# Altium schematic symbol library AVR.SchLib: 14 symbols
Pins are listed as number, name and electrical type; pins without a type are passive.

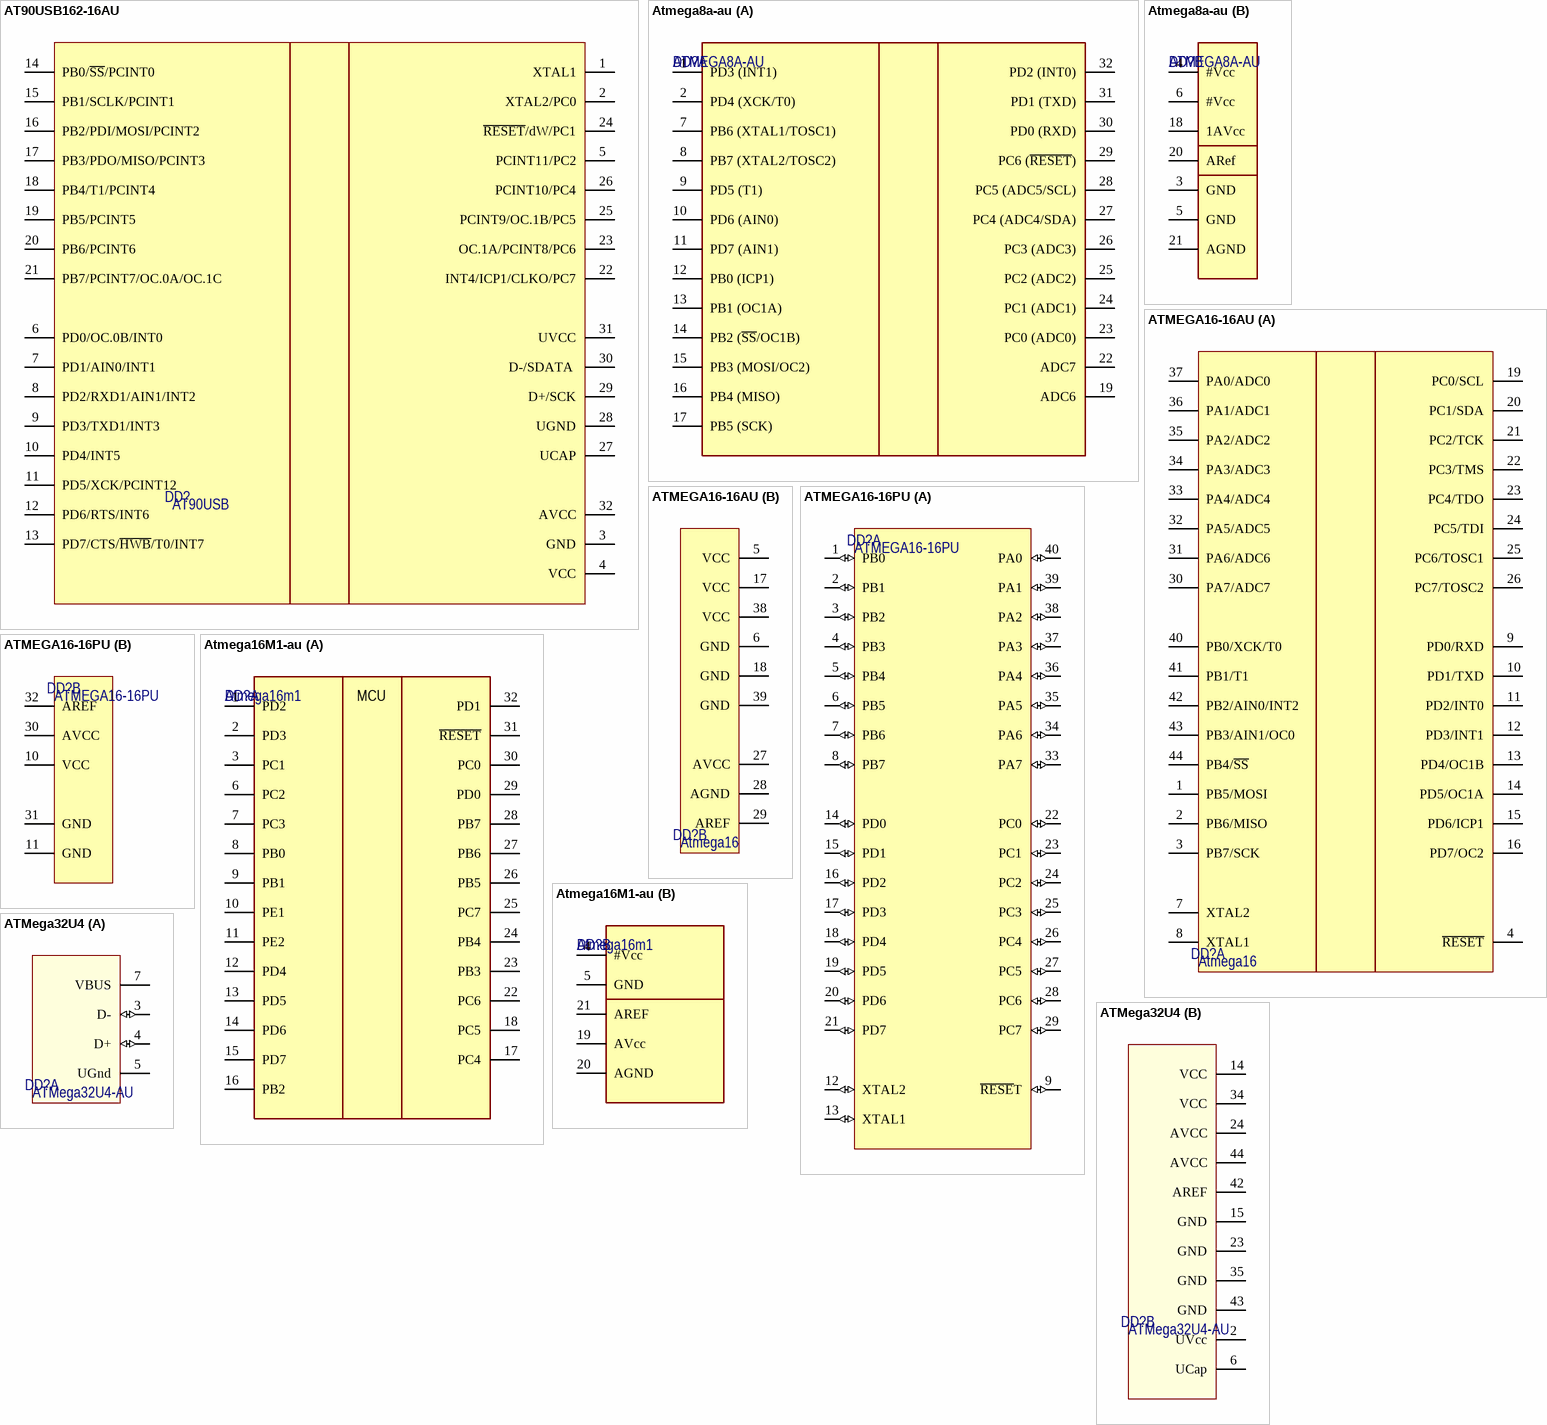
[diagram p0: symbols AT90USB162-16AU to ATMega32U4]

## AT90USB162-16AU
designator DD?, comment AT90USB
IC MCU 8BIT 16KB FLASH 32TQFP; Manufacturer: Atmel; ManufacturerPartNumber: AT90USB162-16AU; ComponentLink1URL: http://www.atmel.com/Images/7707S.pdf; ComponentLink1Description: http://www.atmel.com/Images/7707S.pdf; Note: *; Price: 120; Supplier: Промэлектроника
footprint 32A_N (Thin QFP, 32-Leads, Body 7x7mm, Pitch 0.8mm, IPC Medium Density)
pins: 1 XTAL1, 2 XTAL2/PC0, 3 GND, 4 VCC, 5 PCINT11/PC2, 6 PD0/OC.0B/INT0, 7 PD1/AIN0/INT1, 8 PD2/RXD1/AIN1/INT2, 9 PD3/TXD1/INT3, 10 PD4/INT5, 11 PD5/XCK/PCINT12, 12 PD6/RTS/INT6, 13 PD7/CTS/~{HWB}/T0/INT7, 14 PB0/~{SS}/PCINT0, 15 PB1/SCLK/PCINT1, 16 PB2/PDI/MOSI/PCINT2, 17 PB3/PDO/MISO/PCINT3, 18 PB4/T1/PCINT4, 19 PB5/PCINT5, 20 PB6/PCINT6, 21 PB7/PCINT7/OC.0A/OC.1C, 22 INT4/ICP1/CLKO/PC7, 23 OC.1A/PCINT8/PC6, 24 ~{RESET}/dW/PC1, 25 PCINT9/OC.1B/PC5, 26 PCINT10/PC4, 27 UCAP, 28 UGND, 29 D+/SCK, 30 D-/SDATA , 31 UVCC, 32 AVCC

## Atmega8a-au
designator DD?, comment ATMEGA8A-AU
Microcontroller 8-bit; Manufacturer: Atmel; ComponentLink1URL: http://www.atmel.com/images/atmel-8159-8-bit-avr-microcontroller-atmega8a_datasheet.pdf; ComponentLink1Description: Datasheet; Price: 50; Package: TQFP-32; Supplier: Промэлектроника; ManufacturerPartNumber: ATMEGA8A-AU
footprint 32A_M (Thin QFP, 32-Leads, Body 7x7mm, Pitch 0.8mm, IPC Low Density)
part A pins: 1 PD3 (INT1), 2 PD4 (XCK/T0), 7 PB6 (XTAL1/TOSC1), 8 PB7 (XTAL2/TOSC2), 9 PD5 (T1), 10 PD6 (AIN0), 11 PD7 (AIN1), 12 PB0 (ICP1), 13 PB1 (OC1A), 14 PB2 (~{SS}/OC1B), 15 PB3 (MOSI/OC2), 16 PB4 (MISO), 17 PB5 (SCK), 19 ADC6, 22 ADC7, 23 PC0 (ADC0), 24 PC1 (ADC1), 25 PC2 (ADC2), 26 PC3 (ADC3), 27 PC4 (ADC4/SDA), 28 PC5 (ADC5/SCL), 29 PC6 (~{RESET}), 30 PD0 (RXD), 31 PD1 (TXD), 32 PD2 (INT0)
part B pins: 3 GND, 4 #Vcc (power) "Vcc", 5 GND, 6 #Vcc (power) "Vcc", 18 1AVcc (power) "AVcc", 20 ARef "AREF", 21 AGND

## ATMEGA16-16AU
designator DD?, comment Atmega16
IC MCU 8BIT 16KB FLASH 44TQFP; Manufacturer: Atmel; ManufacturerPartNumber: ATMEGA16-16AU; ComponentLink1URL: http://www.atmel.com/Images/2466s.pdf; ComponentLink1Description: http://www.atmel.com/Images/2466s.pdf; Note: *; Price: 90; Supplier: Промэлектроника
footprint 44ML_L (Thin QFP, 44-Leads, Body 10x10mm, Pitch 0.8mm, IPC High Density)
footprint 44ML_M (Thin QFP, 44-Leads, Body 10x10mm, Pitch 0.8mm, IPC Low Density)
footprint 44ML_N (Thin QFP, 44-Leads, Body 10x10mm, Pitch 0.8mm, IPC Medium Density)
part A pins: 1 PB5/MOSI, 2 PB6/MISO, 3 PB7/SCK, 4 ~{RESET}, 7 XTAL2, 8 XTAL1, 9 PD0/RXD, 10 PD1/TXD, 11 PD2/INT0, 12 PD3/INT1, 13 PD4/OC1B, 14 PD5/OC1A, 15 PD6/ICP1, 16 PD7/OC2, 19 PC0/SCL, 20 PC1/SDA, 21 PC2/TCK, 22 PC3/TMS, 23 PC4/TDO, 24 PC5/TDI, 25 PC6/TOSC1, 26 PC7/TOSC2, 30 PA7/ADC7, 31 PA6/ADC6, 32 PA5/ADC5, 33 PA4/ADC4, 34 PA3/ADC3, 35 PA2/ADC2, 36 PA1/ADC1, 37 PA0/ADC0, 40 PB0/XCK/T0, 41 PB1/T1, 42 PB2/AIN0/INT2, 43 PB3/AIN1/OC0, 44 PB4/~{SS}
part B pins: 5 VCC, 6 GND, 17 VCC, 18 GND, 27 AVCC, 28 AGND, 29 AREF, 38 VCC, 39 GND

## ATMEGA16-16PU
designator DD?
8-битные микроконтроллеры 16kB Flash 0.5kB EEPROM 32 I/O Pins; Manufacturer: Atmel; ManufacturerPartNumber: ATMEGA16-16PU; ComponentLink1URL: http://www.mouser.com/ds/2/36/doc2466-24555.pdf; ComponentLink1Description: http://www.mouser.com/ds/2/36/doc2466-24555.pdf; Note: *; Price: 100; Supplier: *
footprint PDIP40
part A pins: 1 PB0 (io) "Ground", 2 PB1 (io) "Ground", 3 PB2 (io) "Ground", 4 PB3 (io) "Ground", 5 PB4 (io) "Ground", 6 PB5 (io) "Ground", 7 PB6 (io) "Ground", 8 PB7 (io) "Ground", 9 ~{RESE}T (io) "Ground", 12 XTAL2 (io) "Ground", 13 XTAL1 (io) "Ground", 14 PD0 (io) "Ground", 15 PD1 (io) "Ground", 16 PD2 (io) "Ground", 17 PD3 (io) "Ground", 18 PD4 (io) "Ground", 19 PD5 (io) "Ground", 20 PD6 (io) "Ground", 21 PD7 (io) "Ground", 22 PC0 (io) "Ground", 23 PC1 (io) "Ground", 24 PC2 (io) "Ground", 25 PC3 (io) "Ground", 26 PC4 (io) "Ground", 27 PC5 (io) "Ground", 28 PC6 (io) "Ground", 29 PC7 (io) "Ground", 33 PA7 (io) "Ground", 34 PA6 (io) "Ground", 35 PA5 (io) "Ground", 36 PA4 (io) "Ground", 37 PA3 (io) "Ground", 38 PA2 (io) "Ground", 39 PA1 (io) "Ground", 40 PA0 (io) "Ground"
part B pins: 10 VCC (power) "Ground", 11 GND (power) "Ground", 30 AVCC (power) "Ground", 31 GND (power) "Ground", 32 AREF (power) "Ground"

## Atmega16M1-au
designator DD?, comment Atmega16m1
Microcontroller 8-bit (CAN); Manufacturer: Atmel; ManufacturerPartNumber: Atmega16M1-AU; ComponentLink1URL: http://www.atmel.com/Images/doc8209.pdf; ComponentLink1Description: Datasheet; Price: 195; Package: TQFP-32; Supplier: Аргуссофт
footprint 32A_M (Thin QFP, 32-Leads, Body 7x7mm, Pitch 0.8mm, IPC Low Density)
part A pins: 1 PD2 "PD2 (PCINT18/PSCIN2/OC1A/MISO_A)", 2 PD3 "PD3 (PCINT19/TXD/TXLIN/OC0A/SS/MOSI_A)", 3 PC1 "PC1 (PCINT9/PSCIN1/OC1B/SS_A)", 6 PC2 "PC2 (PCINT10/T0/TXCAN)", 7 PC3 "PC3 (PCINT11/T1/RXCAN/ICP1B)", 8 PB0 "PB0 (PCINT0/MISO/PSCOUT2A)", 9 PB1 "PB1 (PCINT1/MOSI/PSCOUT2B)", 10 PE1 "PE1 (PCINT25/OC0B/XTAL1)", 11 PE2 "PE2 (PCINT26/ADC0/XTAL2)", 12 PD4 "PD4 (PCINT20/ADC1/RXD/RXLIN/CP1A/SCK_A)", 13 PD5 "PD5 (ADC2/ACMP2/PCINT21)", 14 PD6 "PD6 (ADC3/ACMPN2/INT0/PCINT22)", 15 PD7 "PD7 (ACMP0/PCINT23)", 16 PB2 "PB2 (ADC5/INT1/ACMPN0/PCINT2)", 17 PC4 "PC4 (ADC8/ACMPN3/AMP1-/PCINT12)", 18 PC5 "PC5 (ADC9/ACMP3/AMP1+/PCINT13)", 22 PC6 "PC6 (ADC10/ACMP1/PCINT14)", 23 PB3 "PB3 (AMP0-/PCINT3)", 24 PB4 "PB4 (AMP0+/PCINT4)", 25 PC7 "PC7 (D2A/AMP2+/PCINT15)", 26 PB5 "PB5 (ADC6/INT2/ACMPN1/AMP2-/PCINT5)", 27 PB6 "PB6 (ADC7/PSCOUT1B/PCINT6)", 28 PB7 "PB7 (ADC4/PSCOUT0B/SCK/PCINT7)", 29 PD0 "PD0 (PCINT16/PSCOUT0A)", 30 PC0 "PC0 (PCINT8/INT3/PSCOUT1A)", 31 ~{RESET} "PE0 (PCINT24/R\E\S\E\T\/OCD)", 32 PD1 "PD1 (PCINT17/PSCIN0/CLKO)"
part B pins: 4 #Vсс (power), 5 GND (power), 19 AVсс (power), 20 AGND (power), 21 AREF (power) "AREF (ISRC)"
part A text: MCU

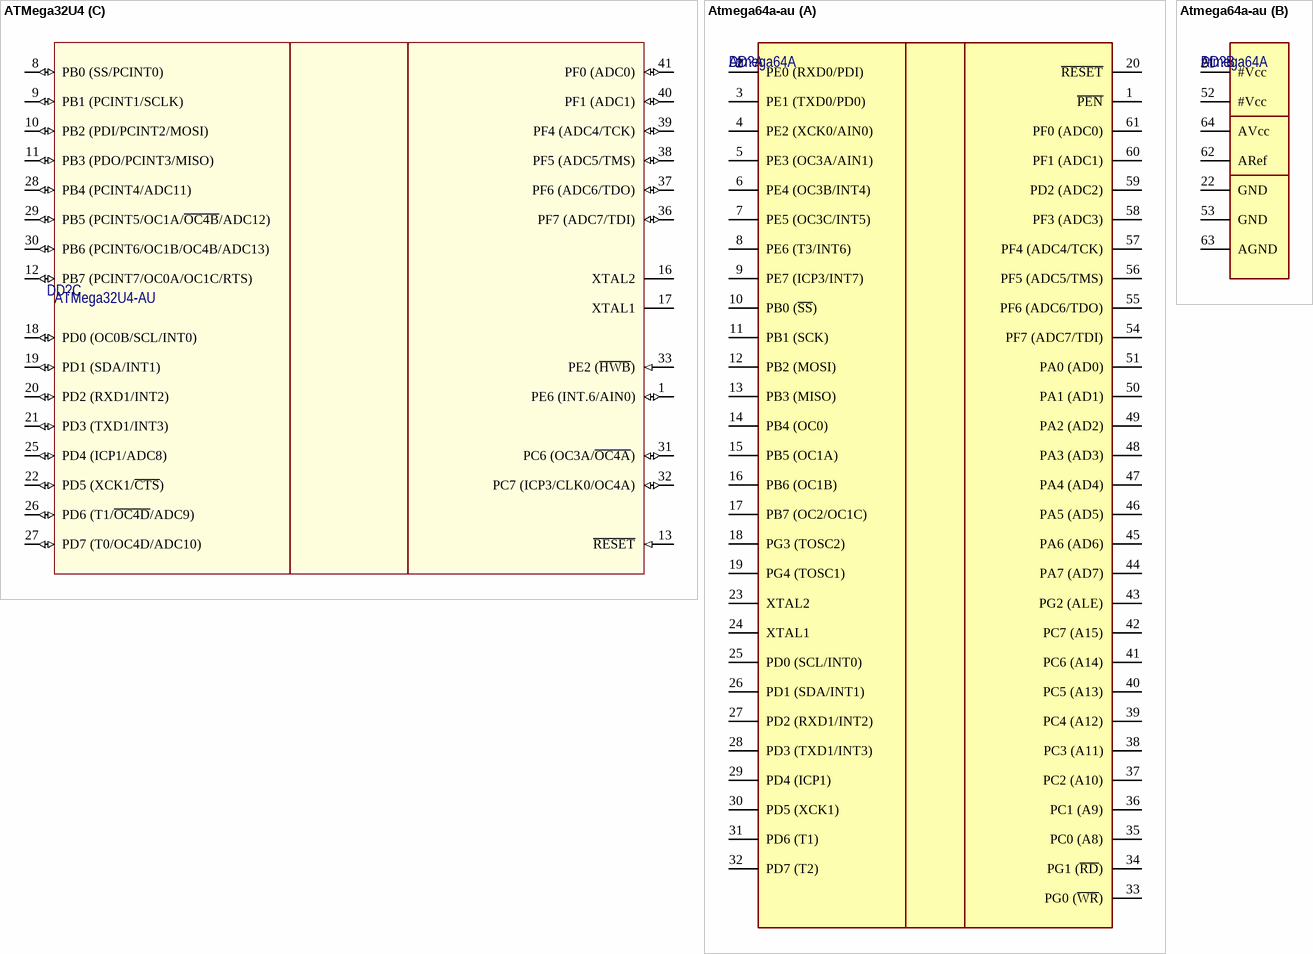
[diagram p1: symbols ATMega32U4 to Atmega64a-au]

## ATMega32U4
designator DD?, comment ATMega32U4-AU
Manufacturer: Atmel; ManufacturerPartNumber: ATMega32U4-AU; Note: *; Price: 300; Supplier: Промэлектроника
footprint 44ML_L (Thin QFP, 44-Leads, Body 10x10mm, Pitch 0.8mm, IPC High Density)
part A pins: 3 D- (io), 4 D+ (io), 5 UGnd (power), 7 VBUS
part B pins: 2 UVcc (power), 6 UCap, 14 VCC (power), 15 GND (power), 23 GND (power), 24 AVCC (power), 34 VCC (power), 35 GND (power), 42 AREF (power), 43 GND (power), 44 AVCC (power)
part C pins: 1 PE6 (INT.6/AIN0) (io), 8 PB0 (SS/PCINT0) (io), 9 PB1 (PCINT1/SCLK) (io), 10 PB2 (PDI/PCINT2/MOSI) (io), 11 PB3 (PDO/PCINT3/MISO) (io), 12 PB7 (PCINT7/OC0A/OC1C/RTS) (io), 13 ~{RESET} (in), 16 XTAL2, 17 XTAL1, 18 PD0 (OC0B/SCL/INT0) (io), 19 PD1 (SDA/INT1) (io), 20 PD2 (RXD1/INT2) (io), 21 PD3 (TXD1/INT3) (io), 22 PD5 (XCK1/~{CTS}) (io), 25 PD4 (ICP1/ADC8) (io), 26 PD6 (T1/~{OC4D}/ADC9) (io), 27 PD7 (T0/OC4D/ADC10) (io), 28 PB4 (PCINT4/ADC11) (io), 29 PB5 (PCINT5/OC1A/~{OC4B}/ADC12) (io), 30 PB6 (PCINT6/OC1B/OC4B/ADC13) (io), 31 PC6 (OC3A/~{OC4A}) (io), 32 PC7 (ICP3/CLK0/OC4A) (io), 33 PE2 (~{HWB}) (in), 36 PF7 (ADC7/TDI) (io), 37 PF6 (ADC6/TDO) (io), 38 PF5 (ADC5/TMS) (io), 39 PF4 (ADC4/TCK) (io), 40 PF1 (ADC1) (io), 41 PF0 (ADC0) (io)

## Atmega64a-au
designator DD?, comment Atmega64A
Microcontroller 8-bit; Manufacturer: Atmel; ManufacturerPartNumber: ATMEGA64A-AU; Package: TQFP-64; ComponentLink1URL: http://www.atmel.com/images/atmel-8160-8-bit-avr-microcontroller-atmega64a-datasheet.pdf; ComponentLink1Description: Datasheet; Price: 113; Supplier: Аргуссофт
footprint 64A_M (Thin QFP, 64-Leads, Body 14x14mm, Pitch 0.8mm, IPC Low Density)
part A pins: 1 ~{PEN}, 2 PE0 (RXD0/PDI), 3 PE1 (TXD0/PD0), 4 PE2 (XCK0/AIN0), 5 PE3 (OC3A/AIN1), 6 PE4 (OC3B/INT4), 7 PE5 (OC3C/INT5), 8 PE6 (T3/INT6), 9 PE7 (ICP3/INT7), 10 PB0 (~{SS}), 11 PB1 (SCK), 12 PB2 (MOSI), 13 PB3 (MISO), 14 PB4 (OC0), 15 PB5 (OC1A), 16 PB6 (OC1B), 17 PB7 (OC2/OC1C), 18 PG3 (TOSC2), 19 PG4 (TOSC1), 20 ~{RESET}, 23 XTAL2, 24 XTAL1, 25 PD0 (SCL/INT0), 26 PD1 (SDA/INT1), 27 PD2 (RXD1/INT2), 28 PD3 (TXD1/INT3), 29 PD4 (ICP1), 30 PD5 (XCK1), 31 PD6 (T1), 32 PD7 (T2), 33 PG0 (~{WR}), 34 PG1 (~{RD}), 35 PC0 (A8), 36 PC1 (A9), 37 PC2 (A10), 38 PC3 (A11), 39 PC4 (A12), 40 PC5 (A13), 41 PC6 (A14), 42 PC7 (A15), 43 PG2 (ALE), 44 PA7 (AD7), 45 PA6 (AD6), 46 PA5 (AD5), 47 PA4 (AD4), 48 PA3 (AD3), 49 PA2 (AD2), 50 PA1 (AD1), 51 PA0 (AD0), 54 PF7 (ADC7/TDI), 55 PF6 (ADC6/TDO), 56 PF5 (ADC5/TMS), 57 PF4 (ADC4/TCK), 58 PF3 (ADC3), 59 PD2 (ADC2), 60 PF1 (ADC1), 61 PF0 (ADC0)
part B pins: 21 #Vcc (power) "Vcc", 22 GND (power), 52 #Vcc (power) "Vcc", 53 GND (power), 62 ARef (power) "AREF", 63 AGND (power), 64 AVcc (power) "Vcc"

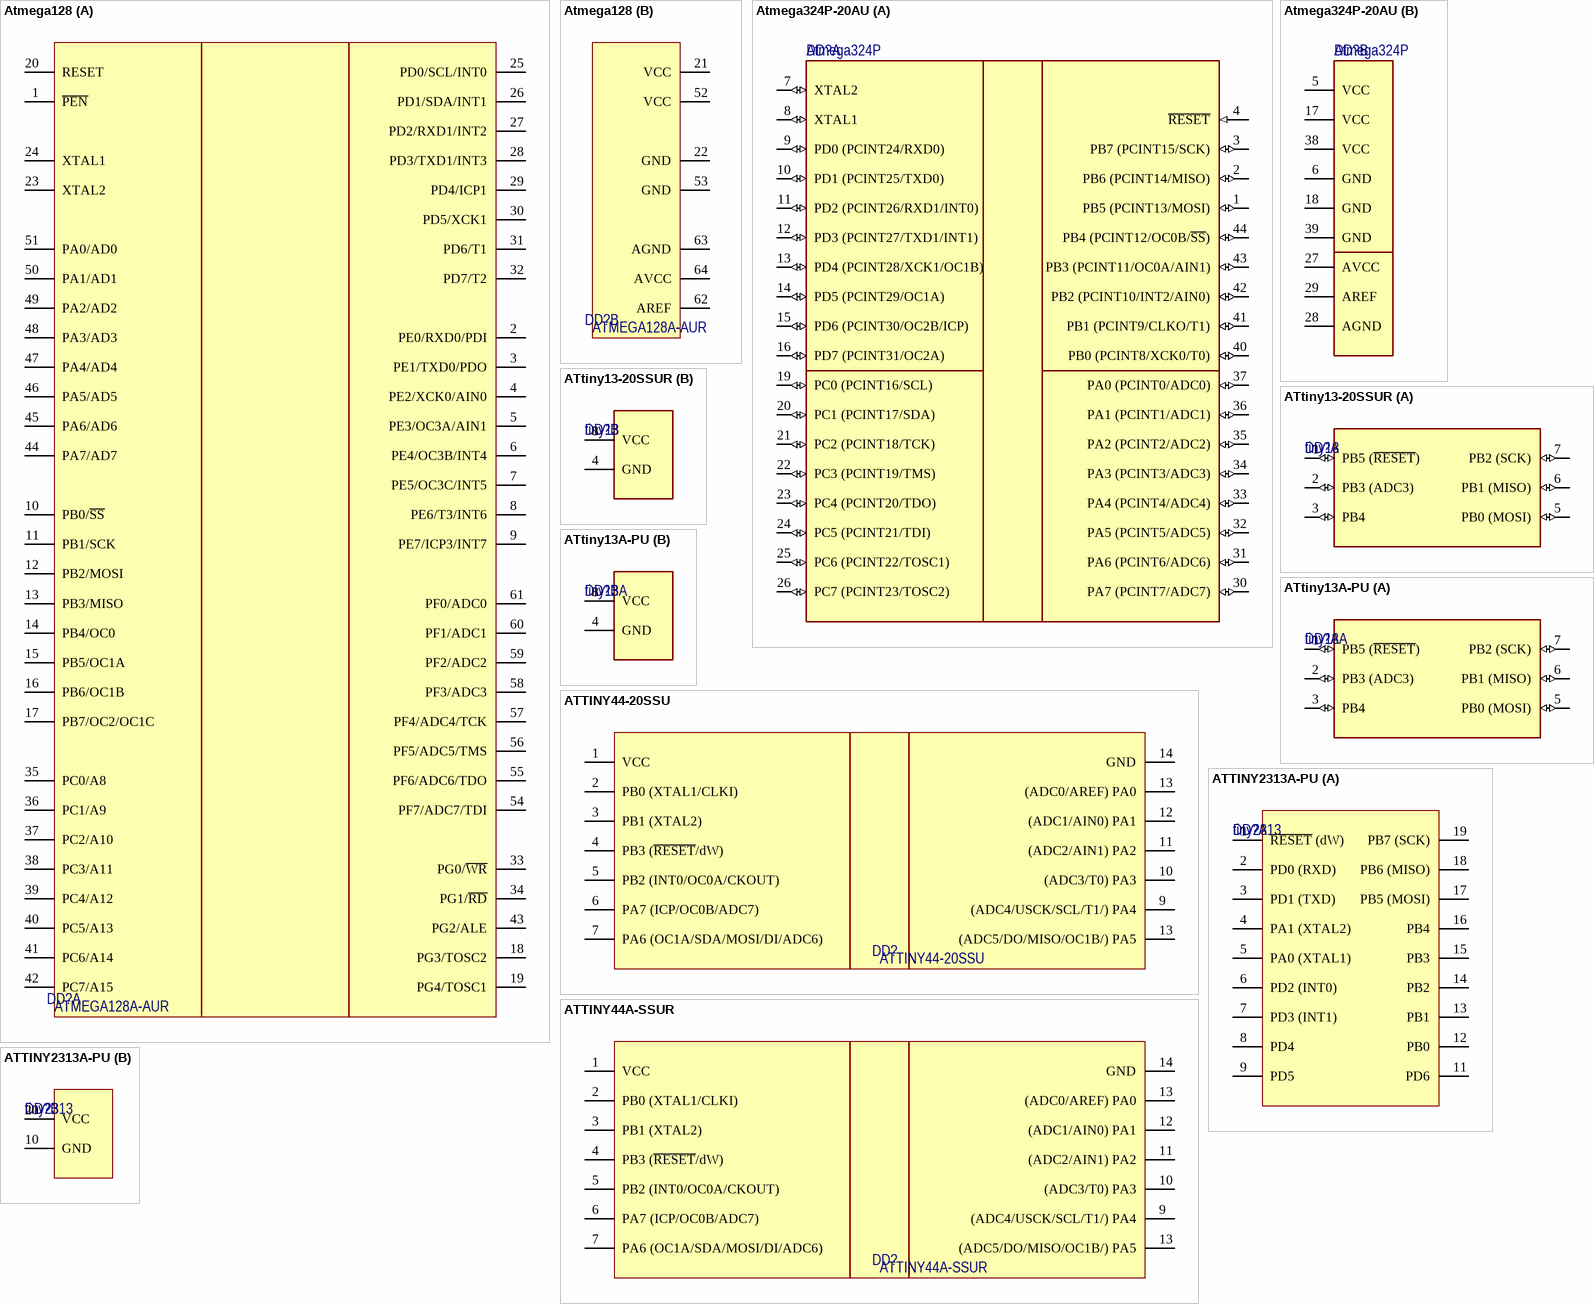
[diagram p2: symbols Atmega128 to ATTINY2313A-PU]

## Atmega128
designator DD?, comment ATMEGA128A-AUR
IC MCU 8BIT 128KB FLASH 64TQFP; Manufacturer: Atmel; ManufacturerPartNumber: ATMEGA128A-AUR; ComponentLink1URL: http://www.atmel.com/Images/Atmel-8151S-8-bit-AVR-ATmega128A_Datasheet%20Summary.pdf; ComponentLink1Description: http://www.atmel.com/Images/Atmel-8151S-8-bit-AVR-ATmega128A_Datasheet%20Summary.pdf; Note: *; Price: 80; Supplier: Промэлектроника
footprint 64A_L (Thin QFP, 64-Leads, Body 14x14mm, Pitch 0.8mm, IPC High Density)
part A pins: 1 ~{PEN}, 2 PE0/RXD0/PDI, 3 PE1/TXD0/PDO, 4 PE2/XCK0/AIN0, 5 PE3/OC3A/AIN1, 6 PE4/OC3B/INT4, 7 PE5/OC3C/INT5, 8 PE6/T3/INT6, 9 PE7/ICP3/INT7, 10 PB0/~{SS}, 11 PB1/SCK, 12 PB2/MOSI, 13 PB3/MISO, 14 PB4/OC0, 15 PB5/OC1A, 16 PB6/OC1B, 17 PB7/OC2/OC1C, 18 PG3/TOSC2, 19 PG4/TOSC1, 20 RESET, 23 XTAL2, 24 XTAL1, 25 PD0/SCL/INT0, 26 PD1/SDA/INT1, 27 PD2/RXD1/INT2, 28 PD3/TXD1/INT3, 29 PD4/ICP1, 30 PD5/XCK1, 31 PD6/T1, 32 PD7/T2, 33 PG0/~{WR}, 34 PG1/~{RD}, 35 PC0/A8, 36 PC1/A9, 37 PC2/A10, 38 PC3/A11, 39 PC4/A12, 40 PC5/A13, 41 PC6/A14, 42 PC7/A15, 43 PG2/ALE, 44 PA7/AD7, 45 PA6/AD6, 46 PA5/AD5, 47 PA4/AD4, 48 PA3/AD3, 49 PA2/AD2, 50 PA1/AD1, 51 PA0/AD0, 54 PF7/ADC7/TDI, 55 PF6/ADC6/TDO, 56 PF5/ADC5/TMS, 57 PF4/ADC4/TCK, 58 PF3/ADC3, 59 PF2/ADC2, 60 PF1/ADC1, 61 PF0/ADC0
part B pins: 21 VCC, 22 GND, 52 VCC, 53 GND, 62 AREF, 63 AGND, 64 AVCC

## Atmega324P-20AU
designator DD?, comment Atmega324P
Microcontroller 8-bit; Manufacturer: Atmel; ManufacturerPartNumber: Atmega324P-20AU; ComponentLink1URL: http://www.atmel.com/Images/Atmel-8011-8-bit-AVR-Microcontroller-ATmega164P-324P-644P_datasheet.pdf; ComponentLink1Description: Datasheet; Price: 220; Package: TQFP-44; Supplier: Промэлектроника
footprint 44ML_M (Thin QFP, 44-Leads, Body 10x10mm, Pitch 0.8mm, IPC Low Density)
part A pins: 1 PB5 (PCINT13/MOSI) (io), 2 PB6 (PCINT14/MISO) (io), 3 PB7 (PCINT15/SCK) (io), 4 ~{RESET} (in), 7 XTAL2 (io), 8 XTAL1 (io), 9 PD0 (PCINT24/RXD0) (io), 10 PD1 (PCINT25/TXD0) (io), 11 PD2 (PCINT26/RXD1/INT0) (io), 12 PD3 (PCINT27/TXD1/INT1) (io), 13 PD4 (PCINT28/XCK1/OC1B) (io), 14 PD5 (PCINT29/OC1A) (io), 15 PD6 (PCINT30/OC2B/ICP) (io), 16 PD7 (PCINT31/OC2A) (io), 19 PC0 (PCINT16/SCL) (io), 20 PC1 (PCINT17/SDA) (io), 21 PC2 (PCINT18/TCK) (io), 22 PC3 (PCINT19/TMS) (io), 23 PC4 (PCINT20/TDO) (io), 24 PC5 (PCINT21/TDI) (io), 25 PC6 (PCINT22/TOSC1) (io), 26 PC7 (PCINT23/TOSC2) (io), 30 PA7 (PCINT7/ADC7) (io), 31 PA6 (PCINT6/ADC6) (io), 32 PA5 (PCINT5/ADC5) (io), 33 PA4 (PCINT4/ADC4) (io), 34 PA3 (PCINT3/ADC3) (io), 35 PA2 (PCINT2/ADC2) (io), 36 PA1 (PCINT1/ADC1) (io), 37 PA0 (PCINT0/ADC0) (io), 40 PB0 (PCINT8/XCK0/T0) (io), 41 PB1 (PCINT9/CLKO/T1) (io), 42 PB2 (PCINT10/INT2/AIN0) (io), 43 PB3 (PCINT11/OC0A/AIN1) (io), 44 PB4 (PCINT12/OC0B/~{SS}) (io)
part B pins: 5 VCC (power), 6 GND (power), 17 VCC (power), 18 GND (power), 27 AVCC (power), 28 AGND (power), 29 AREF (power), 38 VCC (power), 39 GND (power)

## ATtiny13-20SSUR
designator DD?, comment tiny13
Microcontroller 8-bit; ManufacturerPartNumber: ATTINY13-20SSUR; Manufacturer: Atmel; Package: 8-SOIC; Price: 53; Note: *; Supplier: Промэлектроника
footprint T5_M (SOP, 8-Leads, Body 5.2x5.3mm, Pitch 1.27mm, IPC Low Density)
part A pins: 1 PB5 (~{RESET}) (io), 2 PB3 (ADC3) (io), 3 PB4 (io), 5 PB0 (MOSI) (io), 6 PB1 (MISO) (io), 7 PB2 (SCK) (io)
part B pins: 4 GND (power), 8 VCC (power)

## ATtiny13A-PU
designator DD?, comment tiny13A
Microcontroller 8-bit; ManufacturerPartNumber: ATTINY13A-PU; Manufacturer: Atmel; Package: PDIP8; Price: 53; Note: *; Supplier: Промэлектроника
footprint DIP8
part A pins: 1 PB5 (~{RESET}) (io), 2 PB3 (ADC3) (io), 3 PB4 (io), 5 PB0 (MOSI) (io), 6 PB1 (MISO) (io), 7 PB2 (SCK) (io)
part B pins: 4 GND (power), 8 VCC (power)

## ATTINY44-20SSU
designator DD?
IC MCU 8BIT 4KB FLASH 14SOIC; Manufacturer: Atmel; ManufacturerPartNumber: ATTINY44-20SSU; ComponentLink1URL: http://www.atmel.com/Images/8006s.pdf; ComponentLink1Description: http://www.atmel.com/Images/8006s.pdf; Note: *; Price: 70; Supplier: Промэлектроника
footprint 14S1_M (SOIC, 14-Leads, Body 8,65x3,90mm, Pitch 1,27mm, IPC Medium Density)
pins: 1 VCC, 2 PB0 (XTAL1/CLKI), 3 PB1 (XTAL2), 4 PB3 (~{RESET}/dW), 5 PB2 (INT0/OC0A/CKOUT), 6 PA7 (ICP/OC0B/ADC7), 7 PA6 (OC1A/SDA/MOSI/DI/ADC6), 9 (ADC4/USCK/SCL/T1/) PA4, 10 (ADC3/T0) PA3, 11 (ADC2/AIN1) PA2, 12 (ADC1/AIN0) PA1, 13 (ADC0/AREF) PA0, 13 (ADC5/DO/MISO/OC1B/) PA5, 14 GND

## ATTINY44A-SSUR
designator DD?
MCU, 8BIT, AVR, 20MHZ, SOIC-14; Manufacturer: ATMEL; ManufacturerPartNumber: ATTINY44A-SSUR; ComponentLink1URL: http://www.farnell.com/datasheets/1722728.pdf; ComponentLink1Description: http://www.farnell.com/datasheets/1722728.pdf; Note: *; Price: 90; Supplier: Промэлектроника
footprint 14S1_M (SOIC, 14-Leads, Body 8,65x3,90mm, Pitch 1,27mm, IPC Medium Density)
pins: 1 VCC, 2 PB0 (XTAL1/CLKI), 3 PB1 (XTAL2), 4 PB3 (~{RESET}/dW), 5 PB2 (INT0/OC0A/CKOUT), 6 PA7 (ICP/OC0B/ADC7), 7 PA6 (OC1A/SDA/MOSI/DI/ADC6), 9 (ADC4/USCK/SCL/T1/) PA4, 10 (ADC3/T0) PA3, 11 (ADC2/AIN1) PA2, 12 (ADC1/AIN0) PA1, 13 (ADC0/AREF) PA0, 13 (ADC5/DO/MISO/OC1B/) PA5, 14 GND

## ATTINY2313A-PU
designator DD?, comment tiny2313
Microcontroller 8-bit; ManufacturerPartNumber: ATTINY2313A-PU; Manufacturer: Atmel; Package: 20-PDIP; Price: 53; Note: *; Supplier: Промэлектроника; ComponentLink1URL: http://www.atmel.com/images/doc8246.pdf; ComponentLink1Description: Datasheet
footprint DIP20
part A pins: 1 ~{RESET} (dW), 2 PD0 (RXD), 3 PD1 (TXD), 4 PA1 (XTAL2), 5 PA0 (XTAL1), 6 PD2 (INT0), 7 PD3 (INT1), 8 PD4, 9 PD5, 11 PD6, 12 PB0, 13 PB1, 14 PB2, 15 PB3, 16 PB4, 17 PB5 (MOSI), 18 PB6 (MISO), 19 PB7 (SCK)
part B pins: 10 GND, 20 VCC